# EAGLE library part ST7735_128X160 (library display)
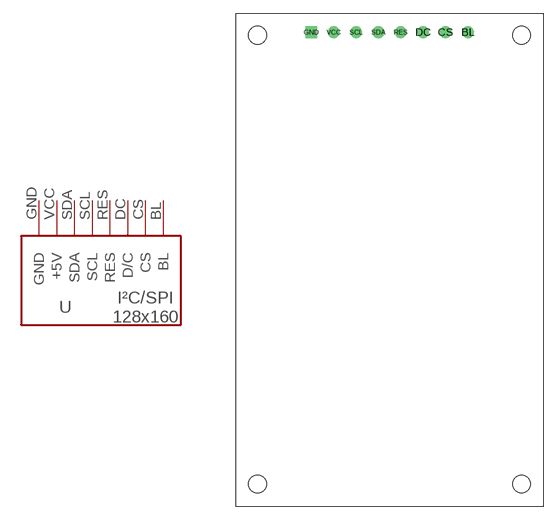
[diagram p0: symbol with the pads of 128X160_ST7735; footprint 128X160_ST7735]

Designator prefix -

## ST7735_128X160  [128X160_ST7735]
BL  BL
CS  CS
DC  D/C
GND  GND
RES  RES
SCL  SCL
SDA  SDA
VCC  +5V

## Footprint 128X160_ST7735 (pad centres in mm)
drill 0.8: BL 8.89,5.842; CS 6.35,5.842; DC 3.81,5.842; RES 1.27,5.842; SCL -3.81,5.842; SDA -1.27,5.842; VCC -6.35,5.842
drill 0.8 square: GND -8.89,5.842
hole 2 at -15,5.5
hole 2 at 15,5.5
hole 2 at -15,-45.466
hole 2 at 15,-45.466